# Altium footprint library MICRO6-SPE-IRLMS6702.PcbLib: 1 footprints
Each footprint in its own frame and in the unit in brackets; x right, y up, seen from the top. Pads: shape width x height; smd on the part's side, far side on the other; paste and mask are expansions set on the pad; w line width, h text height; cw(c..) or ccw(c..) is an arc to the next point about the centre after c.
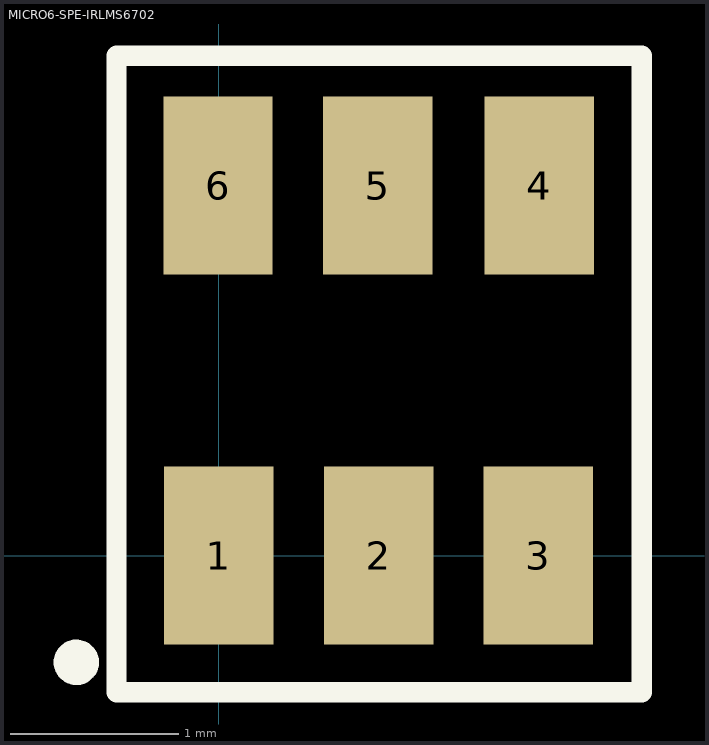
[diagram p0: the footprint, top view; thin cyan lines are the x and y axes]

## MICRO6-SPE-IRLMS6702 [mm]
height 1
pads (6):
  rect 0.65x1.06 smd: 1(0,0) 2(0.95,0) 3(1.9,0) 4(1.905,2.2) 5(0.945,2.2) 6(-0.005,2.2)
Top Overlay:
  circle w0.15: c-0.847,-0.635 r0.06
  lines w0.12: -0.61,-0.813 2.515,-0.813 2.515,2.972 -0.61,2.972 -0.61,-0.813
3D body: height 1.2, standoff 0, extent -0.508,-0.381 2.413,2.54